# Altium integrated library TI Data Converters Analog to Digital Converter.IntLib: 2197 symbols (part 100 of 168)
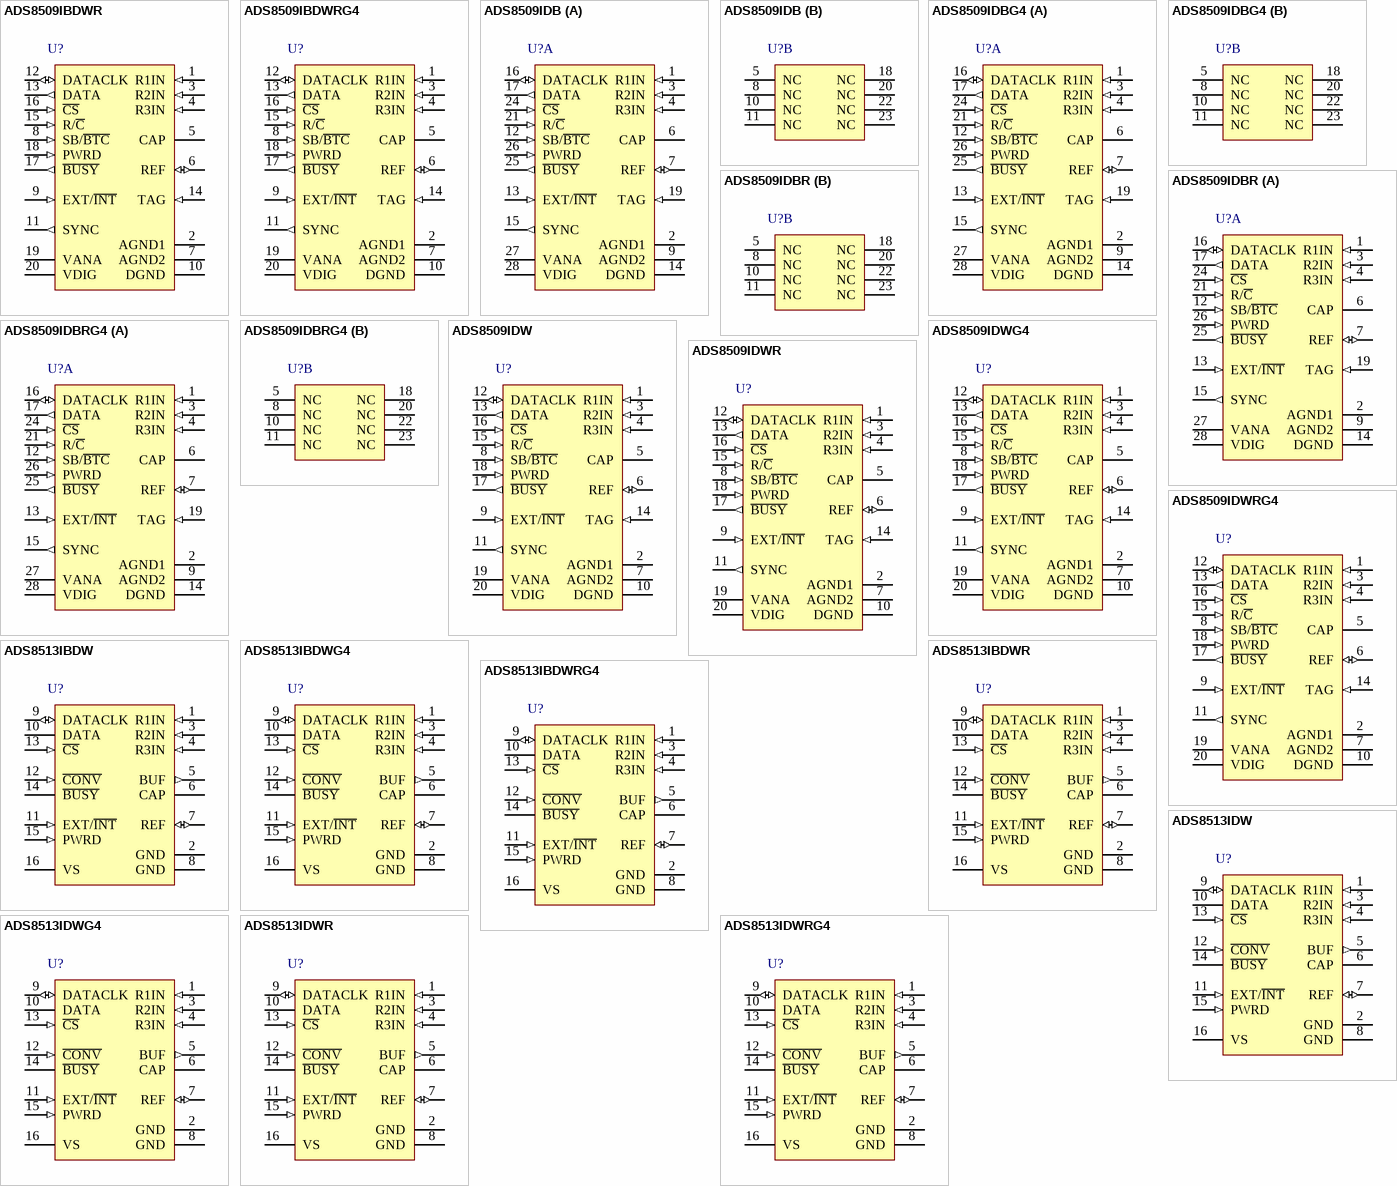
[diagram p225: symbols ADS8509IBDWR to ADS8513IDWRG4]

## ADS8513IBDWRG4
designator U?
16-Bit 40 kSPS Low Power Sampling ADC with IR & Serial Interface and TAG, -40 to 85 degC, 16-pin SOIC (DW16), Green (RoHS & no Sb/Br); Manufacturer: Texas Instruments; PartNumber: ADS8513IBDWRG4; # Input Channels: 1; Analog Voltage AV/DD(Max)(V): 5.25; Analog Voltage AV/DD(Min)(V): 4.75; Architecture: SAR; INL(Max)(+/-LSB): 2; Interface: Serial SPI; Resolution(Bits): 16; Sample Rate (max)(SPS): 40k; SFDR(dB): 102; SINAD(dB): 89; SubFamily: Precision ADC (<=10MSPS); DatasheetVersion: SLAS486C; PackageVersion: 4040000-2/G, 01/2011; PackageReference: DW16; PackageDescription: 16-Pin Plastic Small Outline, Body 10.30 x 7.50 mm, Pitch 1.27 mm; Supplier 1: Digi-Key; Supplier Part Number 1: ADS7825U/1K-ND; Supplier 2: Mouser; Supplier Part Number 2: 595-ADS7825U/1K; Digital Supply(Max)(V): 5.25; Digital Supply(Min)(V): 4.75; Eco-Plan: Green (RoHS & no Sb/Br); SNR(dB): 89; Mounting Technology: Surface Mount; Code_JEDEC: MS-013; ComponentLink1Description: Manufacturer URL; ComponentLink1URL: http://www.ti.com/; ComponentLink2Description: Datasheet; ComponentLink2URL: http://www.ti.com/general/docs/lit/getliterature.tsp?genericPartNumber=ADS8513&fileType=pdf; ComponentLink3Description: Package Specification; ComponentLink3URL: http://www.ti.com/litv/pdf/msoi003g
footprint TI-DW16_N (SOIC, 16-Leads, Body 10.3x7.5mm, Pitch 1.27mm, IPC Medium Density)
footprint TI-DW16_L (SOIC, 16-Leads, Body 10.3x7.5mm, Pitch 1.27mm, IPC High Density)
footprint TI-DW16_M (SOIC, 16-Leads, Body 10.3x7.5mm, Pitch 1.27mm, IPC Low Density)
pins: 1 R1IN (in) "Analog input", 2 GND (power) "Ground.", 3 R2IN (in) "Analog input", 4 R3IN (in) "Analog input", 5 BUF (out) "Reference buffer output. Connect to R1IN, R2IN, or R3IN as needed", 6 CAP "Reference buffer compensation node. Decouple to ground with a 1-uF tantalum capacitor in parallel with a 0.01uF ceramic capacitor.", 7 REF (io) "Reference input/output. Outputs internal 2.5V reference via a series 4kohm resistor. Decouple this voltage with a 1uF to 2.2uF tantalum capacitor to ground. If an external reference voltage is applied to this pin, it (See Datasheet)", 8 GND (power) "Ground.", 9 DATACLK (io) "Data clock pin. With EXT/I\N\T\ low, this pin is an output and provides the synchronous clock for the serial data. The output is 3-stated when C\S\ is high. With EXT/I\N\T\ high, this pin is an input and the serial data (See Datasheet)", 10 DATA (hiz) "Serial data output. The serial data are always the result of the last completed conversion and are synchronized to DATACLK. If DATACLK is from the internal clock (EXT/I\N\T\ low), the serial data are valid on both the rising (See Datasheet)", 11 EXT/~{INT} (in), 12 ~{CONV} (in) "Convert input. A falling edge on this input puts the internal sample/hold into the hold state and starts a conversion regardless of the state of C\S\. If a conversion is already in progress, the falling edge is ignored. If (See Datasheet)", 13 ~{CS} (in) "Chip select. This input 3-states all outputs when high and enables all outputs when low, including DATA, B\U\S\Y\, and DATACLK (when EXT/I\N\T\ is low). Note that a falling edge on C\O\N\V\ initiates a conversion even when (See Datasheet)", 14 ~{BUSY} (hiz) "Busy output. When a conversion starts, B\U\S\Y\ goes low and remains low throughout the conversion. If EXT/I\N\T\ is low, data are serially transmitted while B\U\S\Y\ is low. B\U\S\Y\ is 3-stated when C\S\ is high.", 15 PWRD (in) "Power-down input. When high, the majority of the ADS7812/ADS7813/ADS8513 circuitry is placed in a low-power mode and power consumption is significantly reduced.", 16 VS (power) "+5V supply input. For best performance, decouple to ground with a 0.1uF ceramic capacitor in parallel with a 10uF tantalum capacitor."

## ADS8513IDW
designator U?
16-Bit 40 kSPS Low Power Sampling ADC with IR & Serial Interface and TAG, -40 to 85 degC, 16-pin SOIC (DW16), Green (RoHS & no Sb/Br); Manufacturer: Texas Instruments; PartNumber: ADS8513IDW; # Input Channels: 1; Analog Voltage AV/DD(Max)(V): 5.25; Analog Voltage AV/DD(Min)(V): 4.75; Architecture: SAR; INL(Max)(+/-LSB): 3; Interface: Serial SPI; Resolution(Bits): 16; Sample Rate (max)(SPS): 40k; SFDR(dB): 100; SINAD(dB): 89; SubFamily: Precision ADC (<=10MSPS); DatasheetVersion: SLAS486C; PackageVersion: 4040000-2/G, 01/2011; PackageReference: DW16; PackageDescription: 16-Pin Plastic Small Outline, Body 10.30 x 7.50 mm, Pitch 1.27 mm; Supplier 1: Digi-Key; Supplier Part Number 1: ADS7825U/1KE4-ND; Supplier 2: Mouser; Supplier Part Number 2: 595-ADS7825U/1KE4; Digital Supply(Max)(V): 5.25; Digital Supply(Min)(V): 4.75; Eco-Plan: Green (RoHS & no Sb/Br); SNR(dB): 89; Mounting Technology: Surface Mount; Code_JEDEC: MS-013; ComponentLink1Description: Manufacturer URL; ComponentLink1URL: http://www.ti.com/; ComponentLink2Description: Datasheet; ComponentLink2URL: http://www.ti.com/general/docs/lit/getliterature.tsp?genericPartNumber=ADS8513&fileType=pdf; ComponentLink3Description: Package Specification; ComponentLink3URL: http://www.ti.com/litv/pdf/msoi003g
footprint TI-DW16_N (SOIC, 16-Leads, Body 10.3x7.5mm, Pitch 1.27mm, IPC Medium Density)
footprint TI-DW16_L (SOIC, 16-Leads, Body 10.3x7.5mm, Pitch 1.27mm, IPC High Density)
footprint TI-DW16_M (SOIC, 16-Leads, Body 10.3x7.5mm, Pitch 1.27mm, IPC Low Density)
pins: 1 R1IN (in) "Analog input", 2 GND (power) "Ground.", 3 R2IN (in) "Analog input", 4 R3IN (in) "Analog input", 5 BUF (out) "Reference buffer output. Connect to R1IN, R2IN, or R3IN as needed", 6 CAP "Reference buffer compensation node. Decouple to ground with a 1-uF tantalum capacitor in parallel with a 0.01uF ceramic capacitor.", 7 REF (io) "Reference input/output. Outputs internal 2.5V reference via a series 4kohm resistor. Decouple this voltage with a 1uF to 2.2uF tantalum capacitor to ground. If an external reference voltage is applied to this pin, it (See Datasheet)", 8 GND (power) "Ground.", 9 DATACLK (io) "Data clock pin. With EXT/I\N\T\ low, this pin is an output and provides the synchronous clock for the serial data. The output is 3-stated when C\S\ is high. With EXT/I\N\T\ high, this pin is an input and the serial data (See Datasheet)", 10 DATA (hiz) "Serial data output. The serial data are always the result of the last completed conversion and are synchronized to DATACLK. If DATACLK is from the internal clock (EXT/I\N\T\ low), the serial data are valid on both the rising (See Datasheet)", 11 EXT/~{INT} (in), 12 ~{CONV} (in) "Convert input. A falling edge on this input puts the internal sample/hold into the hold state and starts a conversion regardless of the state of C\S\. If a conversion is already in progress, the falling edge is ignored. If (See Datasheet)", 13 ~{CS} (in) "Chip select. This input 3-states all outputs when high and enables all outputs when low, including DATA, B\U\S\Y\, and DATACLK (when EXT/I\N\T\ is low). Note that a falling edge on C\O\N\V\ initiates a conversion even when (See Datasheet)", 14 ~{BUSY} (hiz) "Busy output. When a conversion starts, B\U\S\Y\ goes low and remains low throughout the conversion. If EXT/I\N\T\ is low, data are serially transmitted while B\U\S\Y\ is low. B\U\S\Y\ is 3-stated when C\S\ is high.", 15 PWRD (in) "Power-down input. When high, the majority of the ADS7812/ADS7813/ADS8513 circuitry is placed in a low-power mode and power consumption is significantly reduced.", 16 VS (power) "+5V supply input. For best performance, decouple to ground with a 0.1uF ceramic capacitor in parallel with a 10uF tantalum capacitor."

## ADS8513IDWG4
designator U?
16-Bit 40 kSPS Low Power Sampling ADC with IR & Serial Interface and TAG, -40 to 85 degC, 16-pin SOIC (DW16), Green (RoHS & no Sb/Br); Manufacturer: Texas Instruments; PartNumber: ADS8513IDWG4; # Input Channels: 1; Analog Voltage AV/DD(Max)(V): 5.25; Analog Voltage AV/DD(Min)(V): 4.75; Architecture: SAR; INL(Max)(+/-LSB): 3; Interface: Serial SPI; Resolution(Bits): 16; Sample Rate (max)(SPS): 40k; SFDR(dB): 100; SINAD(dB): 89; SubFamily: Precision ADC (<=10MSPS); DatasheetVersion: SLAS486C; PackageVersion: 4040000-2/G, 01/2011; PackageReference: DW16; PackageDescription: 16-Pin Plastic Small Outline, Body 10.30 x 7.50 mm, Pitch 1.27 mm; Supplier 1: Digi-Key; Supplier Part Number 1: ADS7825UB-ND; Supplier 2: Newark; Supplier Part Number 2: 35C1552; Supplier 3: Mouser; Supplier Part Number 3: 595-ADS7825UB; Digital Supply(Max)(V): 5.25; Digital Supply(Min)(V): 4.75; Eco-Plan: Green (RoHS & no Sb/Br); SNR(dB): 89; Mounting Technology: Surface Mount; Code_JEDEC: MS-013; ComponentLink1Description: Manufacturer URL; ComponentLink1URL: http://www.ti.com/; ComponentLink2Description: Datasheet; ComponentLink2URL: http://www.ti.com/general/docs/lit/getliterature.tsp?genericPartNumber=ADS8513&fileType=pdf; ComponentLink3Description: Package Specification; ComponentLink3URL: http://www.ti.com/litv/pdf/msoi003g
footprint TI-DW16_N (SOIC, 16-Leads, Body 10.3x7.5mm, Pitch 1.27mm, IPC Medium Density)
footprint TI-DW16_L (SOIC, 16-Leads, Body 10.3x7.5mm, Pitch 1.27mm, IPC High Density)
footprint TI-DW16_M (SOIC, 16-Leads, Body 10.3x7.5mm, Pitch 1.27mm, IPC Low Density)
pins: 1 R1IN (in) "Analog input", 2 GND (power) "Ground.", 3 R2IN (in) "Analog input", 4 R3IN (in) "Analog input", 5 BUF (out) "Reference buffer output. Connect to R1IN, R2IN, or R3IN as needed", 6 CAP "Reference buffer compensation node. Decouple to ground with a 1-uF tantalum capacitor in parallel with a 0.01uF ceramic capacitor.", 7 REF (io) "Reference input/output. Outputs internal 2.5V reference via a series 4kohm resistor. Decouple this voltage with a 1uF to 2.2uF tantalum capacitor to ground. If an external reference voltage is applied to this pin, it (See Datasheet)", 8 GND (power) "Ground.", 9 DATACLK (io) "Data clock pin. With EXT/I\N\T\ low, this pin is an output and provides the synchronous clock for the serial data. The output is 3-stated when C\S\ is high. With EXT/I\N\T\ high, this pin is an input and the serial data (See Datasheet)", 10 DATA (hiz) "Serial data output. The serial data are always the result of the last completed conversion and are synchronized to DATACLK. If DATACLK is from the internal clock (EXT/I\N\T\ low), the serial data are valid on both the rising (See Datasheet)", 11 EXT/~{INT} (in), 12 ~{CONV} (in) "Convert input. A falling edge on this input puts the internal sample/hold into the hold state and starts a conversion regardless of the state of C\S\. If a conversion is already in progress, the falling edge is ignored. If (See Datasheet)", 13 ~{CS} (in) "Chip select. This input 3-states all outputs when high and enables all outputs when low, including DATA, B\U\S\Y\, and DATACLK (when EXT/I\N\T\ is low). Note that a falling edge on C\O\N\V\ initiates a conversion even when (See Datasheet)", 14 ~{BUSY} (hiz) "Busy output. When a conversion starts, B\U\S\Y\ goes low and remains low throughout the conversion. If EXT/I\N\T\ is low, data are serially transmitted while B\U\S\Y\ is low. B\U\S\Y\ is 3-stated when C\S\ is high.", 15 PWRD (in) "Power-down input. When high, the majority of the ADS7812/ADS7813/ADS8513 circuitry is placed in a low-power mode and power consumption is significantly reduced.", 16 VS (power) "+5V supply input. For best performance, decouple to ground with a 0.1uF ceramic capacitor in parallel with a 10uF tantalum capacitor."

## ADS8513IDWR
designator U?
16-Bit 40 kSPS Low Power Sampling ADC with IR & Serial Interface and TAG, -40 to 85 degC, 16-pin SOIC (DW16), Green (RoHS & no Sb/Br); Manufacturer: Texas Instruments; PartNumber: ADS8513IDWR; # Input Channels: 1; Analog Voltage AV/DD(Max)(V): 5.25; Analog Voltage AV/DD(Min)(V): 4.75; Architecture: SAR; INL(Max)(+/-LSB): 3; Interface: Serial SPI; Resolution(Bits): 16; Sample Rate (max)(SPS): 40k; SFDR(dB): 100; SINAD(dB): 89; SubFamily: Precision ADC (<=10MSPS); DatasheetVersion: SLAS486C; PackageVersion: 4040000-2/G, 01/2011; PackageReference: DW16; PackageDescription: 16-Pin Plastic Small Outline, Body 10.30 x 7.50 mm, Pitch 1.27 mm; Supplier 1: Digi-Key; Supplier Part Number 1: ADS7825UB/1K-ND; Supplier 2: Mouser; Supplier Part Number 2: 595-ADS7825UB/1K; Digital Supply(Max)(V): 5.25; Digital Supply(Min)(V): 4.75; Eco-Plan: Green (RoHS & no Sb/Br); SNR(dB): 89; Mounting Technology: Surface Mount; Code_JEDEC: MS-013; ComponentLink1Description: Manufacturer URL; ComponentLink1URL: http://www.ti.com/; ComponentLink2Description: Datasheet; ComponentLink2URL: http://www.ti.com/general/docs/lit/getliterature.tsp?genericPartNumber=ADS8513&fileType=pdf; ComponentLink3Description: Package Specification; ComponentLink3URL: http://www.ti.com/litv/pdf/msoi003g
footprint TI-DW16_N (SOIC, 16-Leads, Body 10.3x7.5mm, Pitch 1.27mm, IPC Medium Density)
footprint TI-DW16_L (SOIC, 16-Leads, Body 10.3x7.5mm, Pitch 1.27mm, IPC High Density)
footprint TI-DW16_M (SOIC, 16-Leads, Body 10.3x7.5mm, Pitch 1.27mm, IPC Low Density)
pins: 1 R1IN (in) "Analog input", 2 GND (power) "Ground.", 3 R2IN (in) "Analog input", 4 R3IN (in) "Analog input", 5 BUF (out) "Reference buffer output. Connect to R1IN, R2IN, or R3IN as needed", 6 CAP "Reference buffer compensation node. Decouple to ground with a 1-uF tantalum capacitor in parallel with a 0.01uF ceramic capacitor.", 7 REF (io) "Reference input/output. Outputs internal 2.5V reference via a series 4kohm resistor. Decouple this voltage with a 1uF to 2.2uF tantalum capacitor to ground. If an external reference voltage is applied to this pin, it (See Datasheet)", 8 GND (power) "Ground.", 9 DATACLK (io) "Data clock pin. With EXT/I\N\T\ low, this pin is an output and provides the synchronous clock for the serial data. The output is 3-stated when C\S\ is high. With EXT/I\N\T\ high, this pin is an input and the serial data (See Datasheet)", 10 DATA (hiz) "Serial data output. The serial data are always the result of the last completed conversion and are synchronized to DATACLK. If DATACLK is from the internal clock (EXT/I\N\T\ low), the serial data are valid on both the rising (See Datasheet)", 11 EXT/~{INT} (in), 12 ~{CONV} (in) "Convert input. A falling edge on this input puts the internal sample/hold into the hold state and starts a conversion regardless of the state of C\S\. If a conversion is already in progress, the falling edge is ignored. If (See Datasheet)", 13 ~{CS} (in) "Chip select. This input 3-states all outputs when high and enables all outputs when low, including DATA, B\U\S\Y\, and DATACLK (when EXT/I\N\T\ is low). Note that a falling edge on C\O\N\V\ initiates a conversion even when (See Datasheet)", 14 ~{BUSY} (hiz) "Busy output. When a conversion starts, B\U\S\Y\ goes low and remains low throughout the conversion. If EXT/I\N\T\ is low, data are serially transmitted while B\U\S\Y\ is low. B\U\S\Y\ is 3-stated when C\S\ is high.", 15 PWRD (in) "Power-down input. When high, the majority of the ADS7812/ADS7813/ADS8513 circuitry is placed in a low-power mode and power consumption is significantly reduced.", 16 VS (power) "+5V supply input. For best performance, decouple to ground with a 0.1uF ceramic capacitor in parallel with a 10uF tantalum capacitor."

## ADS8513IDWRG4
designator U?
16-Bit 40 kSPS Low Power Sampling ADC with IR & Serial Interface and TAG, -40 to 85 degC, 16-pin SOIC (DW16), Green (RoHS & no Sb/Br); Manufacturer: Texas Instruments; PartNumber: ADS8513IDWRG4; # Input Channels: 1; Analog Voltage AV/DD(Max)(V): 5.25; Analog Voltage AV/DD(Min)(V): 4.75; Architecture: SAR; INL(Max)(+/-LSB): 3; Interface: Serial SPI; Resolution(Bits): 16; Sample Rate (max)(SPS): 40k; SFDR(dB): 100; SINAD(dB): 89; SubFamily: Precision ADC (<=10MSPS); DatasheetVersion: SLAS486C; PackageVersion: 4040000-2/G, 01/2011; PackageReference: DW16; PackageDescription: 16-Pin Plastic Small Outline, Body 10.30 x 7.50 mm, Pitch 1.27 mm; Supplier 1: Digi-Key; Supplier Part Number 1: ADS7825UB/1KE4-ND; Supplier 2: Mouser; Supplier Part Number 2: 595-ADS7825UB/1KE4; Digital Supply(Max)(V): 5.25; Digital Supply(Min)(V): 4.75; Eco-Plan: Green (RoHS & no Sb/Br); SNR(dB): 89; Mounting Technology: Surface Mount; Code_JEDEC: MS-013; ComponentLink1Description: Manufacturer URL; ComponentLink1URL: http://www.ti.com/; ComponentLink2Description: Datasheet; ComponentLink2URL: http://www.ti.com/general/docs/lit/getliterature.tsp?genericPartNumber=ADS8513&fileType=pdf; ComponentLink3Description: Package Specification; ComponentLink3URL: http://www.ti.com/litv/pdf/msoi003g
footprint TI-DW16_N (SOIC, 16-Leads, Body 10.3x7.5mm, Pitch 1.27mm, IPC Medium Density)
footprint TI-DW16_L (SOIC, 16-Leads, Body 10.3x7.5mm, Pitch 1.27mm, IPC High Density)
footprint TI-DW16_M (SOIC, 16-Leads, Body 10.3x7.5mm, Pitch 1.27mm, IPC Low Density)
pins: 1 R1IN (in) "Analog input", 2 GND (power) "Ground.", 3 R2IN (in) "Analog input", 4 R3IN (in) "Analog input", 5 BUF (out) "Reference buffer output. Connect to R1IN, R2IN, or R3IN as needed", 6 CAP "Reference buffer compensation node. Decouple to ground with a 1-uF tantalum capacitor in parallel with a 0.01uF ceramic capacitor.", 7 REF (io) "Reference input/output. Outputs internal 2.5V reference via a series 4kohm resistor. Decouple this voltage with a 1uF to 2.2uF tantalum capacitor to ground. If an external reference voltage is applied to this pin, it (See Datasheet)", 8 GND (power) "Ground.", 9 DATACLK (io) "Data clock pin. With EXT/I\N\T\ low, this pin is an output and provides the synchronous clock for the serial data. The output is 3-stated when C\S\ is high. With EXT/I\N\T\ high, this pin is an input and the serial data (See Datasheet)", 10 DATA (hiz) "Serial data output. The serial data are always the result of the last completed conversion and are synchronized to DATACLK. If DATACLK is from the internal clock (EXT/I\N\T\ low), the serial data are valid on both the rising (See Datasheet)", 11 EXT/~{INT} (in), 12 ~{CONV} (in) "Convert input. A falling edge on this input puts the internal sample/hold into the hold state and starts a conversion regardless of the state of C\S\. If a conversion is already in progress, the falling edge is ignored. If (See Datasheet)", 13 ~{CS} (in) "Chip select. This input 3-states all outputs when high and enables all outputs when low, including DATA, B\U\S\Y\, and DATACLK (when EXT/I\N\T\ is low). Note that a falling edge on C\O\N\V\ initiates a conversion even when (See Datasheet)", 14 ~{BUSY} (hiz) "Busy output. When a conversion starts, B\U\S\Y\ goes low and remains low throughout the conversion. If EXT/I\N\T\ is low, data are serially transmitted while B\U\S\Y\ is low. B\U\S\Y\ is 3-stated when C\S\ is high.", 15 PWRD (in) "Power-down input. When high, the majority of the ADS7812/ADS7813/ADS8513 circuitry is placed in a low-power mode and power consumption is significantly reduced.", 16 VS (power) "+5V supply input. For best performance, decouple to ground with a 0.1uF ceramic capacitor in parallel with a 10uF tantalum capacitor."

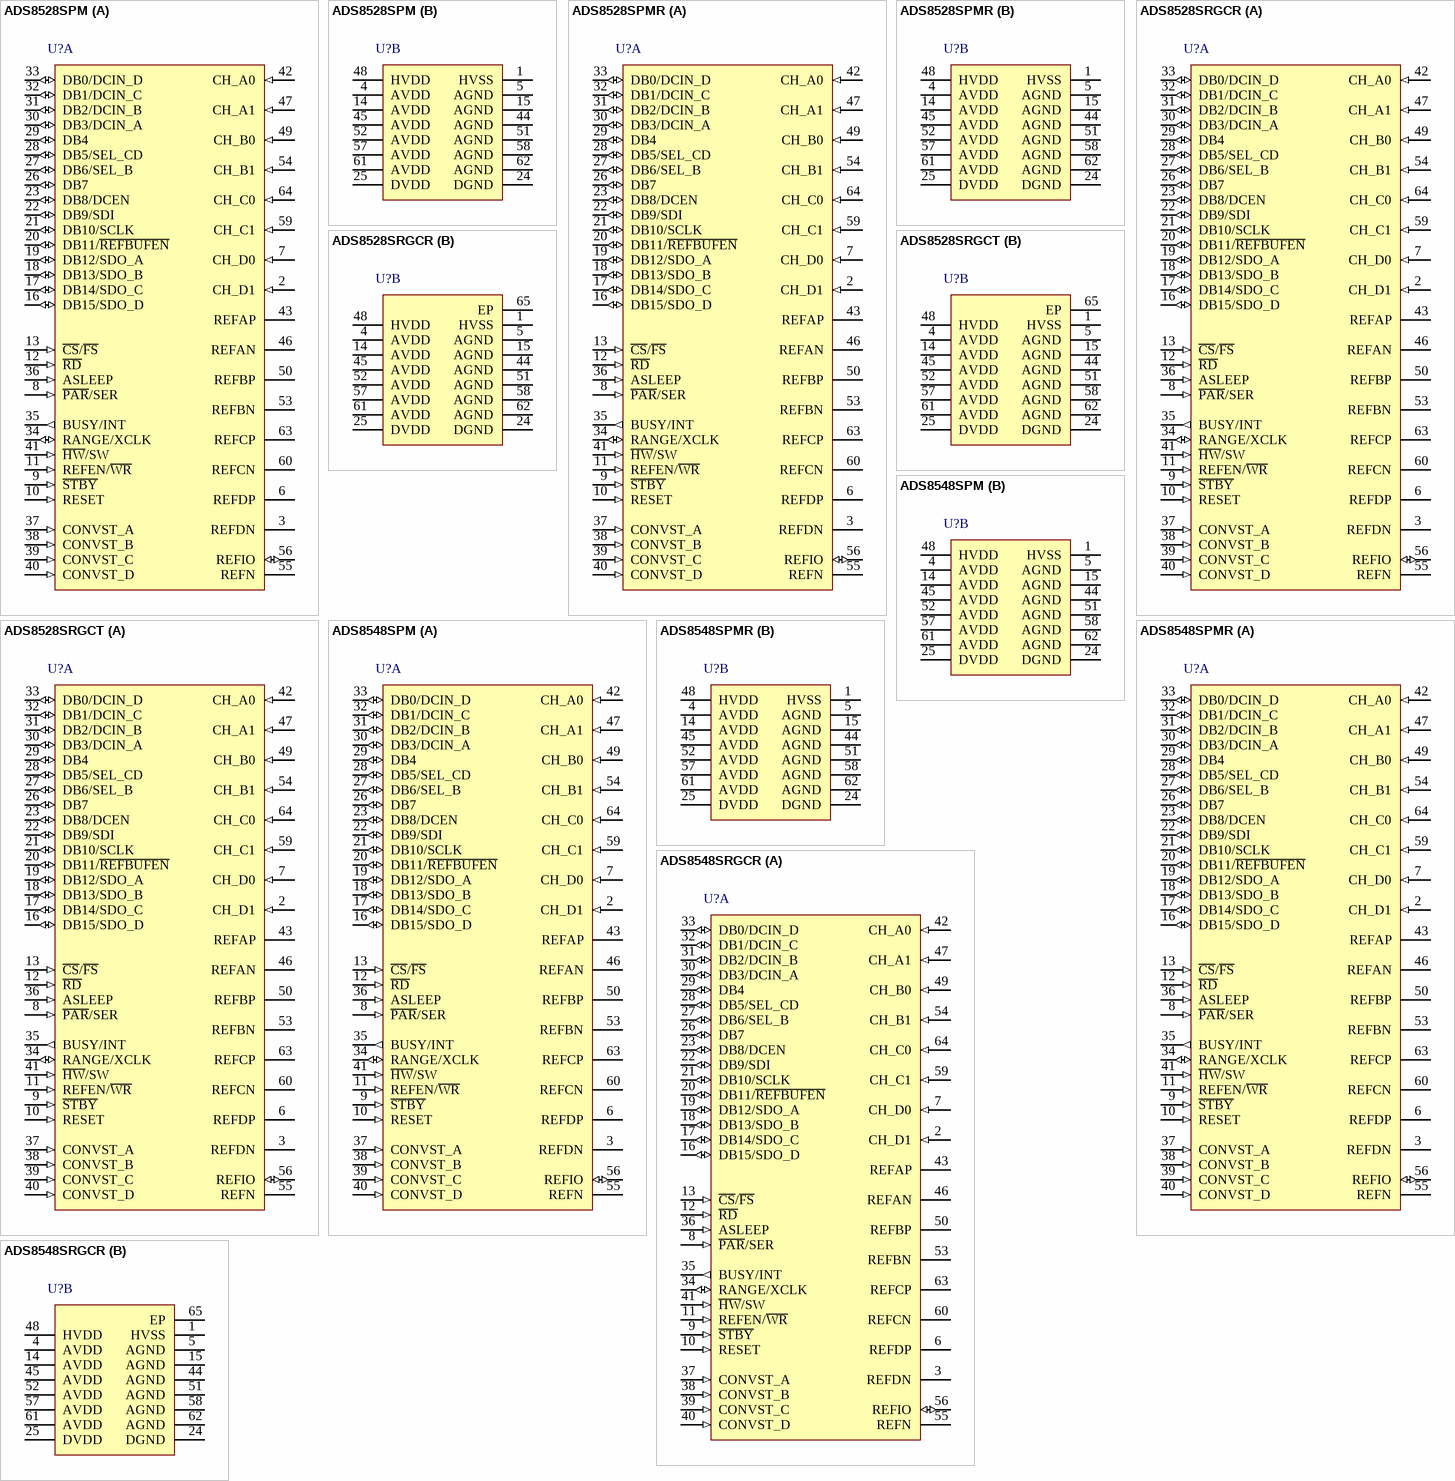
[diagram p85: symbols ADS8528SPM to ADS8548SRGCR]

## ADS8528SPM
designator U?
12-Bit, 8-Channel, Simultaneous Sampling, Bipolar Input ADC, -40 to 125 degC, 64-pin QFP (PM64), Green (RoHS & no Sb/Br); Manufacturer: Texas Instruments; PartNumber: ADS8528SPM; # Input Channels: 8; Analog Voltage AV/DD(Max)(V): 5.5; Analog Voltage AV/DD(Min)(V): 4.5; Architecture: SAR; Digital Supply(Min)(V): 2.7; INL(Max)(+/-LSB): 0.75; Interface: Parallel CMOS,Serial SPI; Resolution(Bits): 12; Sample Rate (max)(SPS): 650k; SFDR(dB): 92; SINAD(dB): 73.8; SNR(dB): 73.9; SubFamily: Precision ADC (<=10MSPS); DatasheetVersion: SBAS543A; PackageVersion: 4040152/C, 11/1996; PackageReference: PM64; PackageDescription: 64-Pin Plastic Quad Flatpack, Body 10 x 10 mm, Pitch 0.5 mm; Supplier 1: Digi-Key; Supplier Part Number 1: ADS7825UBE4-ND; Supplier 2: Mouser; Supplier Part Number 2: 595-ADS7825UBE4; Digital Supply(Max)(V): 5.5; Eco-Plan: Green (RoHS & no Sb/Br); Mounting Technology: Surface Mount; Code_JEDEC: MS-026; ComponentLink1Description: Manufacturer URL; ComponentLink1URL: http://www.ti.com/; ComponentLink2Description: Datasheet; ComponentLink2URL: http://www.ti.com/general/docs/lit/getliterature.tsp?genericPartNumber=ADS8528&fileType=pdf; ComponentLink3Description: Package Specification; ComponentLink3URL: http://www.ti.com/lit/ml/mtqf008a/mtqf008a.pdf
footprint TI-PM64_N (QFP, 64-Leads, Body 10x10mm, Pitch 0.5mm, IPC Medium Density)
footprint TI-PM64_L (QFP, 64-Leads, Body 10x10mm, Pitch 0.5mm, IPC High Density)
footprint TI-PM64_M (QFP, 64-Leads, Body 10x10mm, Pitch 0.5mm, IPC Low Density)
part A pins: 2 CH_D1 (in) "Analog input of channel D1. The input voltage range is controlled by the RANGE pin in hardware mode or by the Configuration Register (CONFIG) bit C19 (RANGE_D) in software mode. This pin can be powered down using CONFIG bit (See Datasheet)", 3 REFDN "Decoupling capacitor input for reference of channel pair D. Connect to the decoupling capacitor and AGND according to the Power Supply section.", 6 REFDP "Decoupling capacitor input for the channel pair D reference. Connect to the decoupling capacitor according to the Power Supply section.", 7 CH_D0 (in) "Analog input of channel D0. The input voltage range is controlled by the RANGE pin in hardware mode or by CONFIG bit C19 (RANGE_D) in software mode. This pin can be powered down using CONFIG bit C18 (PD_D) in software mode.", 8 ~{PAR}/SER (in) "Interface mode selection input. When low, the parallel interface is selected. When high, the serial interface is enabled.", 9 ~{STBY} (in) "Hardware mode (H\W\/SW = 0): standby mode input. When low, the entire device is powered down (including the internal conversion clock source and reference). When high, the device operates in normal mode. Software mode (See Datasheet)", 10 RESET (in) "Reset input, active high. This pin aborts any ongoing conversions and resets the internal Configuration Register (CONFIG) to 000003FFh. A valid reset pulse should be at least 50 ns long.", 11 REFEN/~{WR} (in), 12 ~{RD} (in), 13 ~{CS}/~{FS} (in), 16 DB15/SDO_D (io), 17 DB14/SDO_C (io), 18 DB13/SDO_B (io), 19 DB12/SDO_A (io), 20 DB11/~{REFBUFEN} (io), 21 DB10/SCLK (io), 22 DB9/SDI (io), 23 DB8/DCEN (io), 26 DB7 (io), 27 DB6/SEL_B (io), 28 DB5/SEL_CD (io), 29 DB4 (io), 30 DB3/DCIN_A (io), 31 DB2/DCIN_B (io), 32 DB1/DCIN_C (io), 33 DB0/DCIN_D (io), 34 RANGE/XCLK (io) "Hardware mode (H\W\/SW = 0): analog input voltage range select input. When low, the analog input voltage range is +/-4VREF. When high, the analog input voltage range is +/-2VREF. Sofware mode (H\W\/SW = 1): this pin is an (See Datasheet)", 35 BUSY/INT (out) "When CONFIG bit C27 = 0 (BUSY/INT) this pin is a converter busy status output. This pin transitions high when a conversion has been started and transitions low for a single conversion clock cycle (tCCLK) whenever a channel (See Datasheet)", 36 ASLEEP (in) "Auto-sleep enable input. When low, the device operates in normal mode. When high, the device works in auto-sleep mode where the hold mode and the actual conversion is activated 6 conversion clock (tCCLK) cycles after issuing (See Datasheet)", 37 CONVST_A (in) "Conversion start of channel pair A. The rising edge of this signal initiates simultaneous conversion of analog signals at inputs CH_A[1:0]. This signal resets the internal channel state machine that causes the data output to (See Datasheet)", 38 CONVST_B (in) "Conversion start of channel pair B. The rising edge of this signal initiates simultaneous conversion of analog signals at inputs CH_B[1:0].", 39 CONVST_C (in) "Conversion start of channel pair C. The rising edge of this signal initiates simultaneous conversion of analog signals at inputs CH_C[1:0].", 40 CONVST_D (in) "Conversion start of channel pair D. The rising edge of this signal initiates simultaneous conversion of analog signals at inputs CH_D[1:0].", 41 ~{HW}/SW (in) "Mode selection input. When low, the hardware mode is selected and the device functions according to the settings of the external pins. When high, the software mode is selected in which the device is configured by writing to (See Datasheet)", 42 CH_A0 (in) "Analog input of channel A0; channel A is the master channel pair that is always active. The input voltage range is controlled by the RANGE pin in hardware mode or by CONFIG bit C24 (RANGE_A) in software mode. In cases where (See Datasheet)", 43 REFAP "Decoupling capacitor input for reference of channel pair A. Connect to the decoupling capacitor according to the Power Supply section.", 46 REFAN "Decoupling capacitor input for reference of channel pair A. Connect to the decoupling capacitor and AGND according to the Power Supply section.", 47 CH_A1 (in) "Analog input of channel A1; channel A is the master channel pair that is always active. The input voltage range is controlled by the RANGE pin in hardware mode or by CONFIG bit C24 (RANGE_A) in software mode. In cases where (See Datasheet)", 49 CH_B0 (in) "Analog input of channel B0. The input voltage range is controlled by the RANGE pin in hardware mode or by CONFIG bit C23 (RANGE_B) in software mode.", 50 REFBP "Decoupling capacitor input for reference of channel pair B. Connect to the decoupling capacitor according to the Power Supply section.", 53 REFBN "Decoupling capacitor input for reference of channel pair B. Connect to the decoupling capacitor and AGND according to the Power Supply section.", 54 CH_B1 (in) "Analog input of channel B1. The input voltage range is controlled by the RANGE pin in hardware mode or by CONFIG bit C23 (RANGE_B) in software mode.", 55 REFN "Negative reference input/output pin. Connect to a decoupling capacitor and AGND according to the Power Supply section.", 56 REFIO (io) "Reference voltage input/output. The internal reference is enabled by the REFEN/W\R\ pin in hardware mode or by CONFIG bit C15 (REFEN) in software mode. The output value is controlled by the internal DAC (CONFIG bits C[9:0]). (See Datasheet)", 59 CH_C1 (in) "Analog input of channel C1. The input voltage range is controlled by the RANGE pin in hardware mode or by CONFIG bit C21 (RANGE_C) in software mode.", 60 REFCN "Decoupling capacitor input for reference of channel pair C. Connect to the decoupling capacitor and AGND according to the Power Supply section.", 63 REFCP "Decoupling capacitor input for reference of channel pair C. Connect to the decoupling capacitor according to the Power Supply section.", 64 CH_C0 (in) "Analog input of channel C0. The input voltage range is controlled by the RANGE pin in hardware mode or by CONFIG bit C21 (RANGE_C) in software mode."
part B pins: 1 HVSS (power) "Negative supply voltage for the analog inputs. Decouple according to the Power Supply section.", 4 AVDD (power) "Analog power supply. Decouple according to the Power Supply section.", 5 AGND (power) "Analog ground; connect to the analog ground plane.", 14 AVDD (power) "Analog power supply. Decouple according to the Power Supply section.", 15 AGND (power) "Analog ground; connect to the analog ground plane.", 24 DGND (power) "Buffer I/O ground, connect to digital ground plane", 25 DVDD (power) "Buffer I/O supply, connect to digital supply. Decouple according to the Power Supply section.", 44 AGND (power) "Analog ground; connect to the analog ground plane.", 45 AVDD (power) "Analog power supply. Decouple according to the Power Supply section.", 48 HVDD (power) "Positive supply voltage for the analog inputs. Decouple according to the Power Supply section.", 51 AGND (power) "Analog ground; connect to the analog ground plane.", 52 AVDD (power) "Analog power supply. Decouple according to the Power Supply section.", 57 AVDD (power) "Analog power supply. Decouple according to the Power Supply section.", 58 AGND (power) "Analog ground; connect to the analog ground plane.", 61 AVDD (power) "Analog power supply. Decouple according to the Power Supply section.", 62 AGND (power) "Analog ground; connect to the analog ground plane."

## ADS8528SPMR
designator U?
12-Bit, 8-Channel, Simultaneous Sampling, Bipolar Input ADC, -40 to 125 degC, 64-pin QFP (PM64), Green (RoHS & no Sb/Br); Manufacturer: Texas Instruments; PartNumber: ADS8528SPMR; # Input Channels: 8; Analog Voltage AV/DD(Max)(V): 5.5; Analog Voltage AV/DD(Min)(V): 4.5; Architecture: SAR; Digital Supply(Min)(V): 2.7; INL(Max)(+/-LSB): 0.75; Interface: Parallel CMOS,Serial SPI; Resolution(Bits): 12; Sample Rate (max)(SPS): 650k; SFDR(dB): 92; SINAD(dB): 73.8; SNR(dB): 73.9; SubFamily: Precision ADC (<=10MSPS); DatasheetVersion: SBAS543A; PackageVersion: 4040152/C, 11/1996; PackageReference: PM64; PackageDescription: 64-Pin Plastic Quad Flatpack, Body 10 x 10 mm, Pitch 0.5 mm; Supplier 1: Digi-Key; Supplier Part Number 1: ADS7825UBG4-ND; Supplier 2: Mouser; Supplier Part Number 2: 595-ADS7825UBG4; Digital Supply(Max)(V): 5.5; Eco-Plan: Green (RoHS & no Sb/Br); Mounting Technology: Surface Mount; Code_JEDEC: MS-026; ComponentLink1Description: Manufacturer URL; ComponentLink1URL: http://www.ti.com/; ComponentLink2Description: Datasheet; ComponentLink2URL: http://www.ti.com/general/docs/lit/getliterature.tsp?genericPartNumber=ADS8528&fileType=pdf; ComponentLink3Description: Package Specification; ComponentLink3URL: http://www.ti.com/lit/ml/mtqf008a/mtqf008a.pdf
footprint TI-PM64_N (QFP, 64-Leads, Body 10x10mm, Pitch 0.5mm, IPC Medium Density)
footprint TI-PM64_L (QFP, 64-Leads, Body 10x10mm, Pitch 0.5mm, IPC High Density)
footprint TI-PM64_M (QFP, 64-Leads, Body 10x10mm, Pitch 0.5mm, IPC Low Density)
part A pins: 2 CH_D1 (in) "Analog input of channel D1. The input voltage range is controlled by the RANGE pin in hardware mode or by the Configuration Register (CONFIG) bit C19 (RANGE_D) in software mode. This pin can be powered down using CONFIG bit (See Datasheet)", 3 REFDN "Decoupling capacitor input for reference of channel pair D. Connect to the decoupling capacitor and AGND according to the Power Supply section.", 6 REFDP "Decoupling capacitor input for the channel pair D reference. Connect to the decoupling capacitor according to the Power Supply section.", 7 CH_D0 (in) "Analog input of channel D0. The input voltage range is controlled by the RANGE pin in hardware mode or by CONFIG bit C19 (RANGE_D) in software mode. This pin can be powered down using CONFIG bit C18 (PD_D) in software mode.", 8 ~{PAR}/SER (in) "Interface mode selection input. When low, the parallel interface is selected. When high, the serial interface is enabled.", 9 ~{STBY} (in) "Hardware mode (H\W\/SW = 0): standby mode input. When low, the entire device is powered down (including the internal conversion clock source and reference). When high, the device operates in normal mode. Software mode (See Datasheet)", 10 RESET (in) "Reset input, active high. This pin aborts any ongoing conversions and resets the internal Configuration Register (CONFIG) to 000003FFh. A valid reset pulse should be at least 50 ns long.", 11 REFEN/~{WR} (in), 12 ~{RD} (in), 13 ~{CS}/~{FS} (in), 16 DB15/SDO_D (io), 17 DB14/SDO_C (io), 18 DB13/SDO_B (io), 19 DB12/SDO_A (io), 20 DB11/~{REFBUFEN} (io), 21 DB10/SCLK (io), 22 DB9/SDI (io), 23 DB8/DCEN (io), 26 DB7 (io), 27 DB6/SEL_B (io), 28 DB5/SEL_CD (io), 29 DB4 (io), 30 DB3/DCIN_A (io), 31 DB2/DCIN_B (io), 32 DB1/DCIN_C (io), 33 DB0/DCIN_D (io), 34 RANGE/XCLK (io) "Hardware mode (H\W\/SW = 0): analog input voltage range select input. When low, the analog input voltage range is +/-4VREF. When high, the analog input voltage range is +/-2VREF. Sofware mode (H\W\/SW = 1): this pin is an (See Datasheet)", 35 BUSY/INT (out) "When CONFIG bit C27 = 0 (BUSY/INT) this pin is a converter busy status output. This pin transitions high when a conversion has been started and transitions low for a single conversion clock cycle (tCCLK) whenever a channel (See Datasheet)", 36 ASLEEP (in) "Auto-sleep enable input. When low, the device operates in normal mode. When high, the device works in auto-sleep mode where the hold mode and the actual conversion is activated 6 conversion clock (tCCLK) cycles after issuing (See Datasheet)", 37 CONVST_A (in) "Conversion start of channel pair A. The rising edge of this signal initiates simultaneous conversion of analog signals at inputs CH_A[1:0]. This signal resets the internal channel state machine that causes the data output to (See Datasheet)", 38 CONVST_B (in) "Conversion start of channel pair B. The rising edge of this signal initiates simultaneous conversion of analog signals at inputs CH_B[1:0].", 39 CONVST_C (in) "Conversion start of channel pair C. The rising edge of this signal initiates simultaneous conversion of analog signals at inputs CH_C[1:0].", 40 CONVST_D (in) "Conversion start of channel pair D. The rising edge of this signal initiates simultaneous conversion of analog signals at inputs CH_D[1:0].", 41 ~{HW}/SW (in) "Mode selection input. When low, the hardware mode is selected and the device functions according to the settings of the external pins. When high, the software mode is selected in which the device is configured by writing to (See Datasheet)", 42 CH_A0 (in) "Analog input of channel A0; channel A is the master channel pair that is always active. The input voltage range is controlled by the RANGE pin in hardware mode or by CONFIG bit C24 (RANGE_A) in software mode. In cases where (See Datasheet)", 43 REFAP "Decoupling capacitor input for reference of channel pair A. Connect to the decoupling capacitor according to the Power Supply section.", 46 REFAN "Decoupling capacitor input for reference of channel pair A. Connect to the decoupling capacitor and AGND according to the Power Supply section.", 47 CH_A1 (in) "Analog input of channel A1; channel A is the master channel pair that is always active. The input voltage range is controlled by the RANGE pin in hardware mode or by CONFIG bit C24 (RANGE_A) in software mode. In cases where (See Datasheet)", 49 CH_B0 (in) "Analog input of channel B0. The input voltage range is controlled by the RANGE pin in hardware mode or by CONFIG bit C23 (RANGE_B) in software mode.", 50 REFBP "Decoupling capacitor input for reference of channel pair B. Connect to the decoupling capacitor according to the Power Supply section.", 53 REFBN "Decoupling capacitor input for reference of channel pair B. Connect to the decoupling capacitor and AGND according to the Power Supply section.", 54 CH_B1 (in) "Analog input of channel B1. The input voltage range is controlled by the RANGE pin in hardware mode or by CONFIG bit C23 (RANGE_B) in software mode.", 55 REFN "Negative reference input/output pin. Connect to a decoupling capacitor and AGND according to the Power Supply section.", 56 REFIO (io) "Reference voltage input/output. The internal reference is enabled by the REFEN/W\R\ pin in hardware mode or by CONFIG bit C15 (REFEN) in software mode. The output value is controlled by the internal DAC (CONFIG bits C[9:0]). (See Datasheet)", 59 CH_C1 (in) "Analog input of channel C1. The input voltage range is controlled by the RANGE pin in hardware mode or by CONFIG bit C21 (RANGE_C) in software mode.", 60 REFCN "Decoupling capacitor input for reference of channel pair C. Connect to the decoupling capacitor and AGND according to the Power Supply section.", 63 REFCP "Decoupling capacitor input for reference of channel pair C. Connect to the decoupling capacitor according to the Power Supply section.", 64 CH_C0 (in) "Analog input of channel C0. The input voltage range is controlled by the RANGE pin in hardware mode or by CONFIG bit C21 (RANGE_C) in software mode."
part B pins: 1 HVSS (power) "Negative supply voltage for the analog inputs. Decouple according to the Power Supply section.", 4 AVDD (power) "Analog power supply. Decouple according to the Power Supply section.", 5 AGND (power) "Analog ground; connect to the analog ground plane.", 14 AVDD (power) "Analog power supply. Decouple according to the Power Supply section.", 15 AGND (power) "Analog ground; connect to the analog ground plane.", 24 DGND (power) "Buffer I/O ground, connect to digital ground plane", 25 DVDD (power) "Buffer I/O supply, connect to digital supply. Decouple according to the Power Supply section.", 44 AGND (power) "Analog ground; connect to the analog ground plane.", 45 AVDD (power) "Analog power supply. Decouple according to the Power Supply section.", 48 HVDD (power) "Positive supply voltage for the analog inputs. Decouple according to the Power Supply section.", 51 AGND (power) "Analog ground; connect to the analog ground plane.", 52 AVDD (power) "Analog power supply. Decouple according to the Power Supply section.", 57 AVDD (power) "Analog power supply. Decouple according to the Power Supply section.", 58 AGND (power) "Analog ground; connect to the analog ground plane.", 61 AVDD (power) "Analog power supply. Decouple according to the Power Supply section.", 62 AGND (power) "Analog ground; connect to the analog ground plane."

## ADS8528SRGCR
designator U?
12-Bit, 8-Channel, Simultaneous Sampling, Bipolar Input ADC, -40 to 125 degC, 64-pin QFN (RGC64), Green (RoHS & no Sb/Br); Manufacturer: Texas Instruments; PartNumber: ADS8528SRGCR; # Input Channels: 8; Analog Voltage AV/DD(Max)(V): 5.5; Analog Voltage AV/DD(Min)(V): 4.5; Architecture: SAR; Digital Supply(Min)(V): 2.7; INL(Max)(+/-LSB): 0.75; Interface: Parallel CMOS,Serial SPI; Resolution(Bits): 12; Sample Rate (max)(SPS): 650k; SFDR(dB): 92; SINAD(dB): 73.8; SNR(dB): 73.9; SubFamily: Precision ADC (<=10MSPS); DatasheetVersion: SBAS543A; PackageVersion: 4204106/F, 11/2011; PackageReference: RGC64-7250X7250TP; PackageDescription: 64-Pin Plastic Quad Flatpack No-Lead, Body 9 x 9 mm, Pitch 0.5 mm; Supplier 1: Digi-Key; Supplier Part Number 1: ADS7825UE4-ND; Supplier 2: Mouser; Supplier Part Number 2: 595-ADS7825UE4; Digital Supply(Max)(V): 5.5; Eco-Plan: Green (RoHS & no Sb/Br); Mounting Technology: Surface Mount; ComponentLink1Description: Manufacturer URL; ComponentLink1URL: http://www.ti.com/; ComponentLink2Description: Datasheet; ComponentLink2URL: http://www.ti.com/general/docs/lit/getliterature.tsp?genericPartNumber=ADS8528&fileType=pdf; ComponentLink3Description: Package Specification; ComponentLink3URL: http://www.ti.com/litv/pdf/mpqf125e
footprint TI-RGC64-7250X7250TP_V (QFN, 64-Leads, Body 9x9mm, Pitch 0.5mm, Thermal Pad 7.25x7.25mm, TI Recommended)
part A pins: 2 CH_D1 (in) "Analog input of channel D1. The input voltage range is controlled by the RANGE pin in hardware mode or by the Configuration Register (CONFIG) bit C19 (RANGE_D) in software mode. This pin can be powered down using CONFIG bit (See Datasheet)", 3 REFDN "Decoupling capacitor input for reference of channel pair D. Connect to the decoupling capacitor and AGND according to the Power Supply section.", 6 REFDP "Decoupling capacitor input for the channel pair D reference. Connect to the decoupling capacitor according to the Power Supply section.", 7 CH_D0 (in) "Analog input of channel D0. The input voltage range is controlled by the RANGE pin in hardware mode or by CONFIG bit C19 (RANGE_D) in software mode. This pin can be powered down using CONFIG bit C18 (PD_D) in software mode.", 8 ~{PAR}/SER (in) "Interface mode selection input. When low, the parallel interface is selected. When high, the serial interface is enabled.", 9 ~{STBY} (in) "Hardware mode (H\W\/SW = 0): standby mode input. When low, the entire device is powered down (including the internal conversion clock source and reference). When high, the device operates in normal mode. Software mode (See Datasheet)", 10 RESET (in) "Reset input, active high. This pin aborts any ongoing conversions and resets the internal Configuration Register (CONFIG) to 000003FFh. A valid reset pulse should be at least 50 ns long.", 11 REFEN/~{WR} (in), 12 ~{RD} (in), 13 ~{CS}/~{FS} (in), 16 DB15/SDO_D (io), 17 DB14/SDO_C (io), 18 DB13/SDO_B (io), 19 DB12/SDO_A (io), 20 DB11/~{REFBUFEN} (io), 21 DB10/SCLK (io), 22 DB9/SDI (io), 23 DB8/DCEN (io), 26 DB7 (io), 27 DB6/SEL_B (io), 28 DB5/SEL_CD (io), 29 DB4 (io), 30 DB3/DCIN_A (io), 31 DB2/DCIN_B (io), 32 DB1/DCIN_C (io), 33 DB0/DCIN_D (io), 34 RANGE/XCLK (io) "Hardware mode (H\W\/SW = 0): analog input voltage range select input. When low, the analog input voltage range is +/-4VREF. When high, the analog input voltage range is +/-2VREF. Sofware mode (H\W\/SW = 1): this pin is an (See Datasheet)", 35 BUSY/INT (out) "When CONFIG bit C27 = 0 (BUSY/INT) this pin is a converter busy status output. This pin transitions high when a conversion has been started and transitions low for a single conversion clock cycle (tCCLK) whenever a channel (See Datasheet)", 36 ASLEEP (in) "Auto-sleep enable input. When low, the device operates in normal mode. When high, the device works in auto-sleep mode where the hold mode and the actual conversion is activated 6 conversion clock (tCCLK) cycles after issuing (See Datasheet)", 37 CONVST_A (in) "Conversion start of channel pair A. The rising edge of this signal initiates simultaneous conversion of analog signals at inputs CH_A[1:0]. This signal resets the internal channel state machine that causes the data output to (See Datasheet)", 38 CONVST_B (in) "Conversion start of channel pair B. The rising edge of this signal initiates simultaneous conversion of analog signals at inputs CH_B[1:0].", 39 CONVST_C (in) "Conversion start of channel pair C. The rising edge of this signal initiates simultaneous conversion of analog signals at inputs CH_C[1:0].", 40 CONVST_D (in) "Conversion start of channel pair D. The rising edge of this signal initiates simultaneous conversion of analog signals at inputs CH_D[1:0].", 41 ~{HW}/SW (in) "Mode selection input. When low, the hardware mode is selected and the device functions according to the settings of the external pins. When high, the software mode is selected in which the device is configured by writing to (See Datasheet)", 42 CH_A0 (in) "Analog input of channel A0; channel A is the master channel pair that is always active. The input voltage range is controlled by the RANGE pin in hardware mode or by CONFIG bit C24 (RANGE_A) in software mode. In cases where (See Datasheet)", 43 REFAP "Decoupling capacitor input for reference of channel pair A. Connect to the decoupling capacitor according to the Power Supply section.", 46 REFAN "Decoupling capacitor input for reference of channel pair A. Connect to the decoupling capacitor and AGND according to the Power Supply section.", 47 CH_A1 (in) "Analog input of channel A1; channel A is the master channel pair that is always active. The input voltage range is controlled by the RANGE pin in hardware mode or by CONFIG bit C24 (RANGE_A) in software mode. In cases where (See Datasheet)", 49 CH_B0 (in) "Analog input of channel B0. The input voltage range is controlled by the RANGE pin in hardware mode or by CONFIG bit C23 (RANGE_B) in software mode.", 50 REFBP "Decoupling capacitor input for reference of channel pair B. Connect to the decoupling capacitor according to the Power Supply section.", 53 REFBN "Decoupling capacitor input for reference of channel pair B. Connect to the decoupling capacitor and AGND according to the Power Supply section.", 54 CH_B1 (in) "Analog input of channel B1. The input voltage range is controlled by the RANGE pin in hardware mode or by CONFIG bit C23 (RANGE_B) in software mode.", 55 REFN "Negative reference input/output pin. Connect to a decoupling capacitor and AGND according to the Power Supply section.", 56 REFIO (io) "Reference voltage input/output. The internal reference is enabled by the REFEN/W\R\ pin in hardware mode or by CONFIG bit C15 (REFEN) in software mode. The output value is controlled by the internal DAC (CONFIG bits C[9:0]). (See Datasheet)", 59 CH_C1 (in) "Analog input of channel C1. The input voltage range is controlled by the RANGE pin in hardware mode or by CONFIG bit C21 (RANGE_C) in software mode.", 60 REFCN "Decoupling capacitor input for reference of channel pair C. Connect to the decoupling capacitor and AGND according to the Power Supply section.", 63 REFCP "Decoupling capacitor input for reference of channel pair C. Connect to the decoupling capacitor according to the Power Supply section.", 64 CH_C0 (in) "Analog input of channel C0. The input voltage range is controlled by the RANGE pin in hardware mode or by CONFIG bit C21 (RANGE_C) in software mode."
part B pins: 1 HVSS (power) "Negative supply voltage for the analog inputs. Decouple according to the Power Supply section.", 4 AVDD (power) "Analog power supply. Decouple according to the Power Supply section.", 5 AGND (power) "Analog ground; connect to the analog ground plane.", 14 AVDD (power) "Analog power supply. Decouple according to the Power Supply section.", 15 AGND (power) "Analog ground; connect to the analog ground plane.", 24 DGND (power) "Buffer I/O ground, connect to digital ground plane", 25 DVDD (power) "Buffer I/O supply, connect to digital supply. Decouple according to the Power Supply section.", 44 AGND (power) "Analog ground; connect to the analog ground plane.", 45 AVDD (power) "Analog power supply. Decouple according to the Power Supply section.", 48 HVDD (power) "Positive supply voltage for the analog inputs. Decouple according to the Power Supply section.", 51 AGND (power) "Analog ground; connect to the analog ground plane.", 52 AVDD (power) "Analog power supply. Decouple according to the Power Supply section.", 57 AVDD (power) "Analog power supply. Decouple according to the Power Supply section.", 58 AGND (power) "Analog ground; connect to the analog ground plane.", 61 AVDD (power) "Analog power supply. Decouple according to the Power Supply section.", 62 AGND (power) "Analog ground; connect to the analog ground plane.", 65 EP